# Altium schematic symbol library Crystals.SchLib: 2 symbols
Pins are listed as number, name and electrical type; pins without a type are passive.

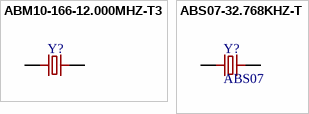
[diagram p0: symbols ABM10-166-12.000MHZ-T3 to ABS07-32.768KHZ-T]

## ABM10-166-12.000MHZ-T3
designator Y?, comment ABM10  (value not drawn)
CRYSTAL 12 MHz SMD 28 pF 10 ppm; Manufacturer: Abracon; Manufacturer Part Number: ABM10-166-12.000MHZ-T3; Frequency Stability: 10ppm; Frequency: 12MHz; Load Capacitance: 8pF; ESR (Equivalent Series Resistance): 125R; Supplier 1: Farnell; Supplier Part Number 1: 2849406; RoHS: Yes; Category: Crystals; Stock: 5674; Mount: Surface Mount; Case/Package: SMD/SMT; Min Operating Temperature: -20°C; Max Operating Temperature: 70°C; Frequency Tolerance: 10ppm; Packaging: Tape and Reel; Length: 0.098inch; Height: 0.02inch; Width: 0.079inch; ComponentLink1URL: http://www.farnell.com/datasheets/2581417.pdf?src-supplier=Farnell; ComponentLink1Description: http://www.farnell.com/datasheets/2581417.pdf?src-supplier=Farnell; ComponentLink2URL: https://abracon.com/Resonators/ABM10-XXX_packagedrawing.PDF?src-supplier=Digi-Key; ComponentLink2Description: https://abracon.com/Resonators/ABM10-XXX_packagedrawing.PDF?src-supplier=Digi-Key; Price: 0.41
footprint ABM10-167
pins: 1, 2

## ABS07-32.768KHZ-T
designator Y?, comment ABS07
CRYSTAL 32.7680KHZ 12.5PF SMD; Manufacturer: Abracon; Manufacturer Part Number: ABS07-32.768KHZ-T; Frequency Tolerance: 20ppm; ESR (Equivalent Series Resistance): 70kR; Frequency: 32.768kHz; Supplier 1: Farnell; Supplier Part Number 1: 2101347; RoHS: Yes; Category: Crystals; Stock: 222445; Pricing: 5=0.65300, 50=0.44800, 250=0.43500, 500=0.34800, 1500=0.31800, 3000=0.28700, 15000=0.28500 (EUR); Case/Package: CSMD; Number of Pins: 2; Min Operating Temperature: -40°C; Max Operating Temperature: 85°C; Load Capacitance: 12.5pF; Packaging: Tape and Reel; Package Quantity: 3000; Tolerance: 20ppm; Termination: SMD/SMT; Series Resistance: 70kR; Length: 3.2mm; Height: 0.035inch; Width: 0.061inch; Depth: 1.5mm; Radiation Hardening: No; Lead Free: Lead Free; REACH SVHC: No SVHC; ComponentLink1URL: https://datasheet.ciiva.com/854/abs07-854935.pdf?src-supplier=Digi-Key; ComponentLink1Description: https://datasheet.ciiva.com/854/abs07-854935.pdf?src-supplier=Digi-Key; ComponentLink2URL: https://datasheet.ciiva.com/1357/1883680-1357319.pdf?src-supplier=Element14; ComponentLink2Description: https://datasheet.ciiva.com/1357/1883680-1357319.pdf?src-supplier=Element14; ComponentLink3URL: https://datasheet.ciiva.com/854/abs07-854936.pdf?src-supplier=Digi-Key; ComponentLink3Description: https://datasheet.ciiva.com/854/abs07-854936.pdf?src-supplier=Digi-Key; ComponentLink4URL: https://datasheet.ciiva.com/854/abs07-854937.pdf?src-supplier=Digi-Key; ComponentLink4Description: https://datasheet.ciiva.com/854/abs07-854937.pdf?src-supplier=Digi-Key; ComponentLink5URL: https://datasheet.ciiva.com/15214/getdatasheetpartid-727011-15214954.pdf?src-supplier=Verical; ComponentLink5Description: https://datasheet.ciiva.com/15214/getdatasheetpartid-727011-15214954.pdf?src-supplier=Verical; ComponentLink6URL: https://datasheet.ciiva.com/7998/1912628-7998667.pdf?src-supplier=Element14; ComponentLink6Description: https://datasheet.ciiva.com/7998/1912628-7998667.pdf?src-supplier=Element14; ComponentLink7URL: https://datasheet.ciiva.com/4944/abs07-11028-4944830.pdf?src-supplier=Mouser; ComponentLink7Description: https://datasheet.ciiva.com/4944/abs07-11028-4944830.pdf?src-supplier=Mouser; Price: 0.454
footprint ABS-07
pins: 1, 2